# Altium footprint library TO-220-3-BEND.PcbLib: 1 footprints
Each footprint in its own frame and in the unit in brackets; x right, y up, seen from the top. Pads: shape width x height; smd on the part's side, far side on the other; paste and mask are expansions set on the pad; w line width, h text height; cw(c..) or ccw(c..) is an arc to the next point about the centre after c.
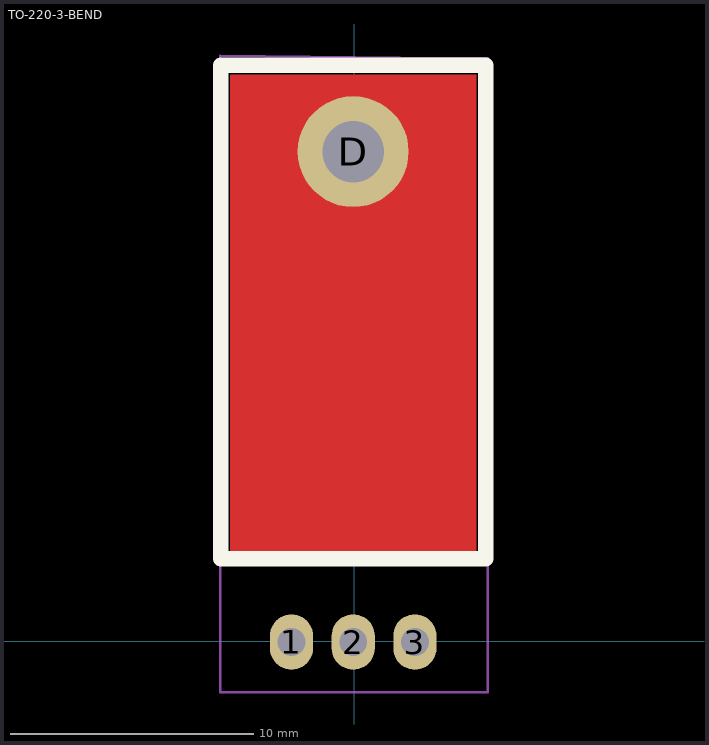
[diagram p0: the footprint, top view; thin cyan lines are the x and y axes]

## TO-220-3-BEND [mil]
height 43.31
pads (4):
  oval 70x90 hole 45: 1(-101.32,-1.47) 2(-1.32,-1.47) 3(98.68,-1.47)
  round 180 hole 100: D(-1.32,793.53)
Top Layer:
  rectangle: -201.32,138.53 198.68,918.53
Top Overlay:
  lines w25: -216.32,133.53 213.68,133.53 213.68,933.53 -216.32,933.53 -216.32,133.53
Top Paste:
  rectangle: -211.32,138.53 208.68,928.53
Top Solder:
  rectangle: -211.32,138.53 208.68,928.53
Top Assembly:
  lines w3.94: -216.54,948.82 -216.54,-82.68 216.54,-82.68 216.54,944.88 147.64,944.88 -216.53,948.86
  text "'.Designator'" at 0,0 h27.56
3D body "TO220 (bend) 2.STEP": height 179.25, standoff 4.25, extent -196.32,-7.51 196.18,914.57